# EAGLE library part MCP6004 (library IC & Transistor)
4-Channel Op-Amp Created by: Wai Weng
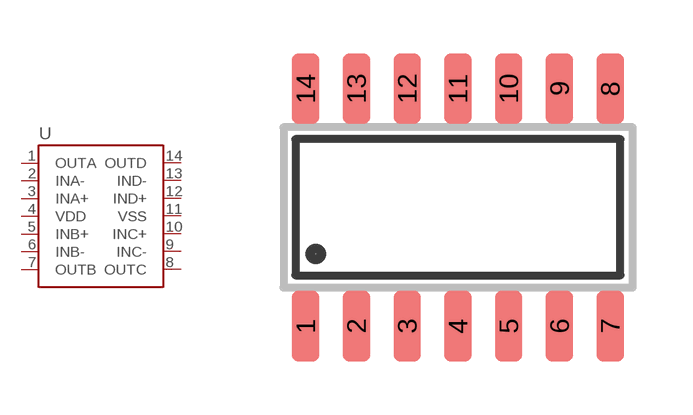
[diagram p28: symbol with the pads of SOIC-14N; footprint SOIC-14N]

Designator prefix U

## MCP6004_(SOIC) (CYTRON-PC: S-IC-MCP6004T-SO14; DESC: S Op Amp MCP6004T SO14; MF: Microchip Technology; MPN: MCP6004T-I/SL)  [SOIC-14N]
1  OUTA
2  INA-
3  INA+
4  VDD
5  INB+
6  INB-
7  OUTB
8  OUTC
9  INC-
10  INC+
11  VSS
12  IND+
13  IND-
14  OUTD

## Footprint SOIC-14N (pad centres in mm)
Small Outline Integrated Circuit (SOIC) Narrow (JEDEC) SOIC Package Size: 8.65 x 3.90mm Lead Pitch: 1.27mm Created by: Idris Modified by: Wai Weng 1. Changed the orientation.
smd 0.686 x 1.778: 1 -3.81,-2.972; 2 -2.54,-2.972; 3 -1.27,-2.972; 4 0,-2.972; 5 1.27,-2.972; 6 2.54,-2.972; 7 3.81,-2.972; 8 3.81,2.972; 9 2.54,2.972; 10 1.27,2.972; 11 0,2.972; 12 -1.27,2.972; 13 -2.54,2.972; 14 -3.81,2.972